# Altium footprint library AntennaStripFootprint.PcbLib: 1 footprints
Each footprint in its own frame and in the unit in brackets; x right, y up, seen from the top. Pads: shape width x height; smd on the part's side, far side on the other; paste and mask are expansions set on the pad; w line width, h text height; cw(c..) or ccw(c..) is an arc to the next point about the centre after c.
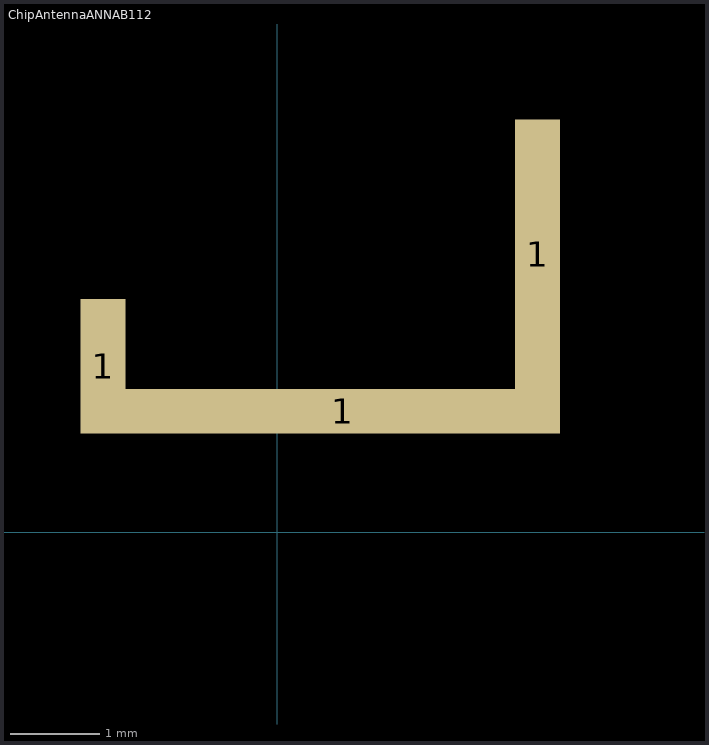
[diagram p0: the footprint, top view; thin cyan lines are the x and y axes]

## ChipAntennaANNAB112 [mm] "chip antenna for internal antenna of ANNA-B112 when the chip is mounted on the corner"
pads (3):
  rect 0.5x1.5 smd: 1(-1.94,1.851)
  rect 4.84x0.5 smd: 1(0.73,1.351)
  rect 0.5x3 smd: 1(2.9,3.1)